# Altium footprint library TOxx.PcbLib: 93 footprints (part 1 of 6)
Each footprint in its own frame and in the unit in brackets; x right, y up, seen from the top. Pads: shape width x height; smd on the part's side, far side on the other; paste and mask are expansions set on the pad; w line width, h text height; cw(c..) or ccw(c..) is an arc to the next point about the centre after c.
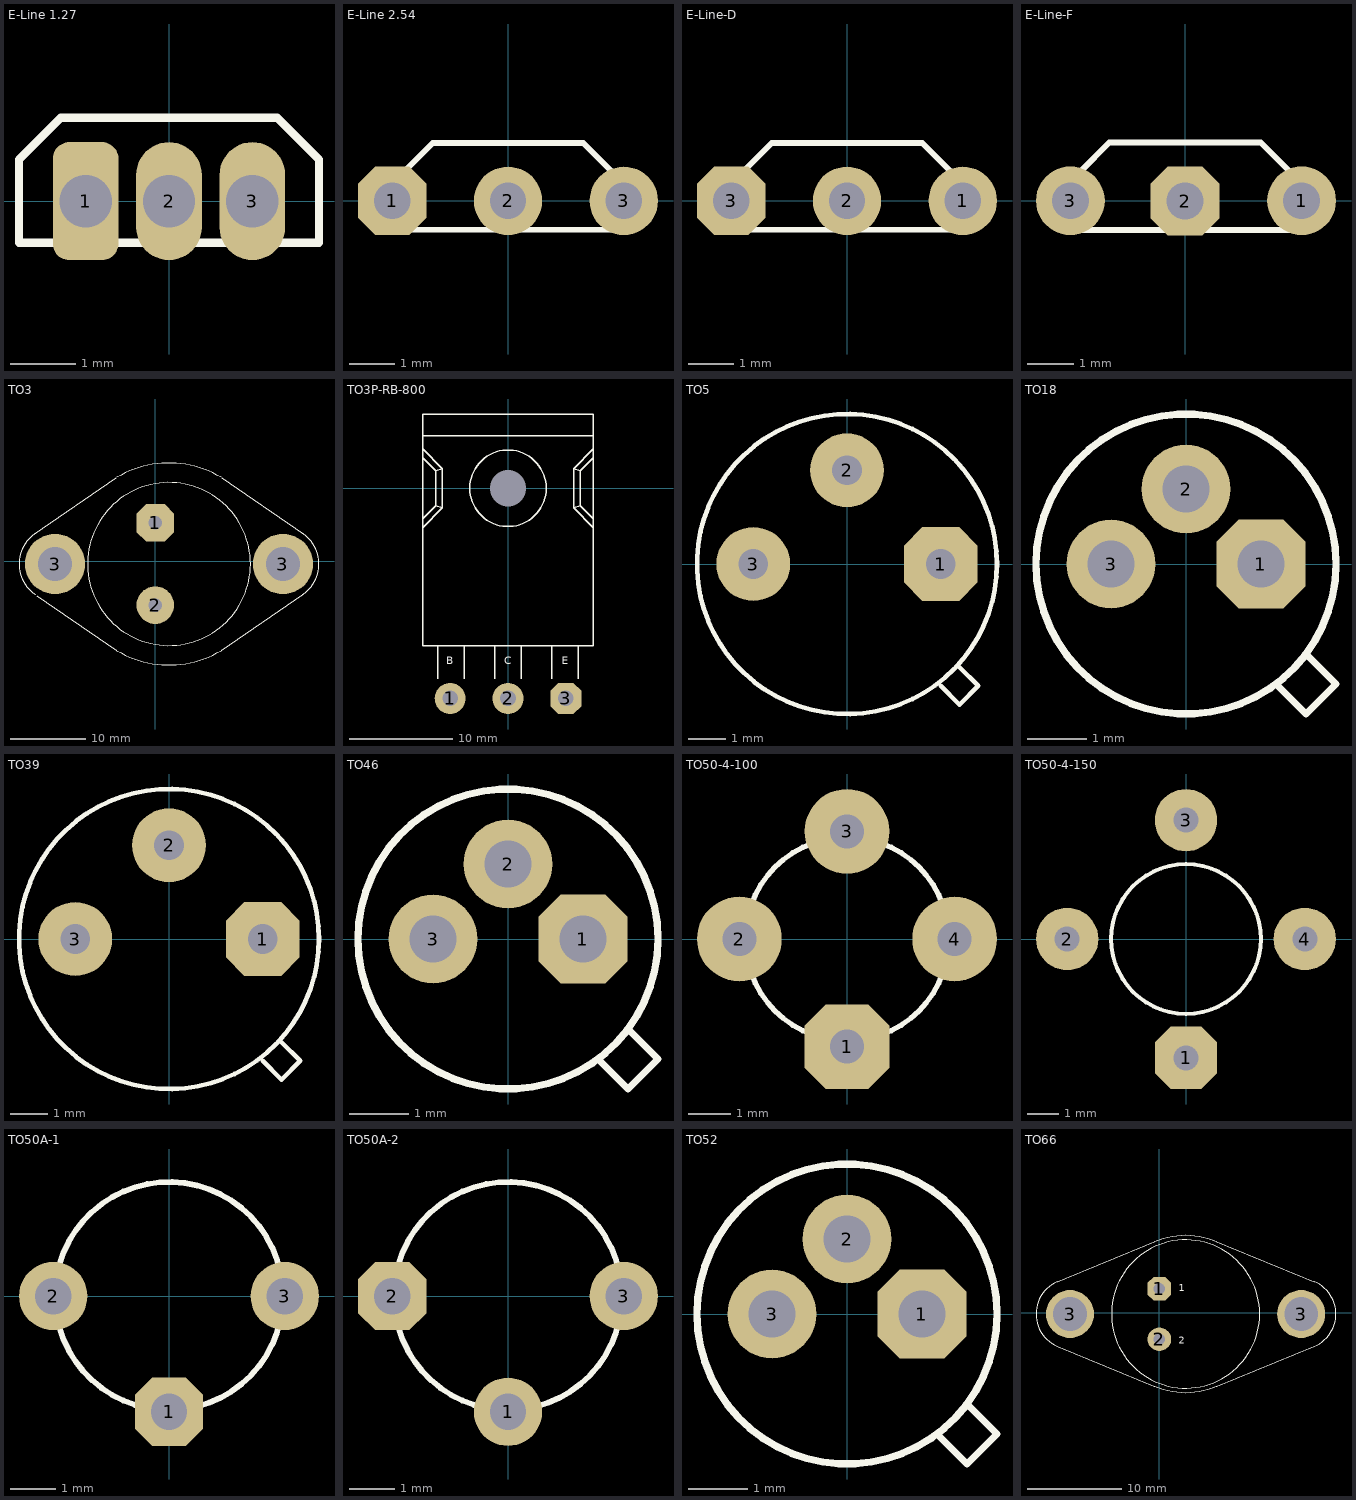
[diagram p0: the footprints below, top view; thin cyan lines are the x and y axes]

## E-Line 1.27 [mm]
pads (3):
  rrect50% 1x1.8 hole 0.8: 1(-1.27,0)
  oval 1x1.8 hole 0.8: 2(0,0) 3(1.27,0)
TopOverlay:
  lines w0.125: -2.286,-0.635 2.286,-0.635 2.286,0.635 1.651,1.27 -1.651,1.27 -2.286,0.635 -2.286,-0.635
3D body: height 7.08, standoff -2, extent -2.4,-0.985 2.4,1.415

## E-Line 2.54 [mm]
pads (3):
  oct 1.5x1.5 hole 0.8: 1(-2.54,0)
  round 1.5 hole 0.8: 2(0,0) 3(2.54,0)
TopOverlay:
  lines w0.125: -2.286,-0.635 -2.286,0.635 -1.651,1.27 1.651,1.27 2.286,0.635 2.286,-0.635 -2.286,-0.635
3D body: height 8, standoff -3.02, extent -2.788,-1.205 2.787,1.195

## E-Line-D [mm]
pads (3):
  round 1.5 hole 0.8: 1(2.54,0) 2(0,0)
  oct 1.5x1.5 hole 0.8: 3(-2.54,0)
TopOverlay:
  lines w0.125: -2.286,-0.635 2.286,-0.635 2.286,0.635 1.651,1.27 -1.651,1.27 -2.286,0.635 -2.286,-0.635
3D body: height 8, standoff -3.02, extent -2.788,-1.205 2.787,1.195

## E-Line-F [mm]
pads (3):
  round 1.5 hole 0.8: 1(2.54,0) 3(-2.5,0)
  oct 1.5x1.5 hole 0.8: 2(-0.001,-0.005)
TopOverlay:
  lines w0.125: -2.286,-0.635 -2.286,0.635 -1.651,1.27 1.651,1.27 2.286,0.635 2.286,-0.635 -2.286,-0.635
3D body: height 8, standoff -3.02, extent -2.788,-1.205 2.787,1.195

## TO3 [mm]
pads (4):
  oct 5x5 hole 1.8: 1(0,5.08)
  round 5 hole 1.8: 2(0,-5.842)
  round 8 hole 4.5: 3(-13.297,-0.381) 3(16.929,-0.381)
TopOverlay:
  circle w0.125: c1.816,-0.381 r10.813
  lines w0.125: -15.964,3.641 -5.169,11.049 ; -15.935,-4.417 cw(c-13.212,-0.381) -15.935,3.655 ; -15.752,-4.614 -5.169,-11.811 ; -5.085,-11.866 ccw(c1.816,-0.381) 8.717,-11.866 ; -5.085,11.104 cw(c1.816,-0.381) 8.717,11.104 ; 8.801,-11.811 19.596,-4.403 ; 8.801,11.049 19.596,3.641 ; 19.567,-4.417 ccw(c16.844,-0.381) 19.567,3.655

## TO3P-RB-800 [mm]
pads (4):
  round 0 hole 3.5 unplated: 0(0,0)
  round 3 hole 1.5: 1(-5.588,-20.32) 2(0,-20.32)
  oct 3x3 hole 1.5: 3(5.588,-20.32)
TopOverlay:
  circle w0.125: c0,0 r3.698
  lines w0.125: -8.255,-3.81 -6.35,-1.905 ; -8.255,-2.963 -6.985,-1.693 ; -8.255,2.963 -6.985,1.693 ; -8.255,3.81 -6.35,1.905 ; -8.255,5.08 8.255,5.08 ; -6.773,-18.415 -6.773,-15.24 ; -4.233,-18.415 -4.233,-15.24 ; -1.27,-18.415 -1.27,-15.24 ; 1.27,-18.415 1.27,-15.24 ; 4.233,-18.415 4.233,-15.24 ; 6.773,-18.415 6.773,-15.24 ; 8.255,-3.81 6.35,-1.905 ; 8.255,-2.963 6.985,-1.693 ; 8.255,2.963 6.985,1.693 ; 8.255,3.81 6.35,1.905 ; -6.985,-1.693 -6.985,1.693 ; -6.985,-1.693 -6.35,-1.905 ; -6.985,1.693 -6.35,1.905 ; -6.35,-1.905 -6.35,1.905 ; 6.35,-1.905 6.35,1.905 ; 6.35,-1.905 6.985,-1.693 ; 6.35,1.905 6.985,1.693 ; 6.985,-1.693 6.985,1.693 ; -8.255,-15.24 8.255,-15.24 8.255,7.179 -8.255,7.179 -8.255,-15.24
  text "B" at -5.969,-17.272 h1.27
  text "E" at 5.207,-17.272 h1.27
  text "C" at -0.381,-17.272 h1.27
3D body: height 9.39, standoff -6.78, extent -8.001,-20.707 8.001,7.179

## TO5 [mm]
pads (3):
  oct 2x2 hole 0.8: 1(2.54,0)
  round 2 hole 0.8: 2(0,2.54) 3(-2.54,0)
TopOverlay:
  circle w0.125: c0,0 r4.064
  lines w0.125: 2.54,-3.302 3.048,-3.81 3.556,-3.302 3.048,-2.794

## TO18 [mm]
pads (3):
  oct 1.5x1.5 hole 0.8: 1(1.27,0)
  round 1.5 hole 0.8: 2(0,1.27) 3(-1.27,0)
TopOverlay:
  circle w0.125: c0,0 r2.54
  lines w0.125: 1.524,-2.032 2.032,-2.54 2.54,-2.032 2.032,-1.524

## TO39 [mm]
pads (3):
  oct 2x2 hole 0.8: 1(2.54,0)
  round 2 hole 0.8: 2(0,2.54) 3(-2.54,0)
TopOverlay:
  circle w0.125: c0,0 r4.064
  lines w0.125: 2.54,-3.302 3.048,-3.81 3.556,-3.302 3.048,-2.794

## TO46 [mm]
pads (3):
  oct 1.5x1.5 hole 0.8: 1(1.27,0)
  round 1.5 hole 0.8: 2(0,1.27) 3(-1.27,0)
TopOverlay:
  circle w0.125: c0,0 r2.54
  lines w0.125: 1.524,-2.032 2.032,-2.54 2.54,-2.032 2.032,-1.524

## TO50-4-100 [mm]
pads (4):
  oct 2x2 hole 0.8: 1(0,-2.54)
  round 2 hole 0.8: 2(-2.54,0) 3(0,2.54) 4(2.54,0)
TopOverlay:
  circle w0.125: c0,0 r2.4
3D body: height 1.53, standoff -2.31, extent -2.64,-2.64 2.64,2.64

## TO50-4-150 [mm]
pads (4):
  oct 2x2 hole 0.8: 1(0,-3.81)
  round 2 hole 0.8: 2(-3.81,0) 3(0,3.81) 4(3.81,0)
TopOverlay:
  circle w0.125: c0,0 r2.4
3D body: height 1.53, standoff -2.31, extent -3.91,-3.91 3.91,3.91

## TO50A-1 [mm]
pads (3):
  oct 1.5x1.5 hole 0.8: 1(0,-2.54)
  round 1.5 hole 0.8: 2(-2.54,0) 3(2.54,0)
TopOverlay:
  circle w0.125: c0,0 r2.502

## TO50A-2 [mm]
pads (3):
  round 1.5 hole 0.8: 1(0,-2.54) 3(2.54,0)
  oct 1.5x1.5 hole 0.8: 2(-2.54,0)
TopOverlay:
  circle w0.125: c0,0 r2.502

## TO52 [mm]
pads (3):
  oct 1.5x1.5 hole 0.8: 1(1.27,0)
  round 1.5 hole 0.8: 2(0,1.27) 3(-1.27,0)
TopOverlay:
  circle w0.125: c0,0 r2.54
  lines w0.125: 1.524,-2.032 2.032,-2.54 2.54,-2.032 2.032,-1.524

## TO66 [mil]
pads (4):
  oct 98.43x98.43 hole 47.24: 1(0,100)
  round 98.43 hole 47.24: 2(0,-110)
  round 200 hole 140: 3(-372,-5) 3(590,-5)
TopOverlay:
  circle w4.92: c109,-5 r308.33
  lines w4.92: -426,-140 -21,-305 ; -425.99,-139.75 cw(c-366,-5) -425.99,129.75 ; -426,130 -21,295 ; -18.64,-305.7 ccw(c109,-5) 236.64,-305.7 ; -18.64,295.7 cw(c109,-5) 236.64,295.7 ; 239,-305 644,-140 ; 239,295 644,130 ; 643.63,-140.21 ccw(c589,-5) 643.63,130.21
  text "1" at 80,80 h50
  text "2" at 80,-140 h50